# Altium footprint library Resistor.PcbLib: 13 footprints
Each footprint in its own frame and in the unit in brackets; x right, y up, seen from the top. Pads: shape width x height; smd on the part's side, far side on the other; paste and mask are expansions set on the pad; w line width, h text height; cw(c..) or ccw(c..) is an arc to the next point about the centre after c.
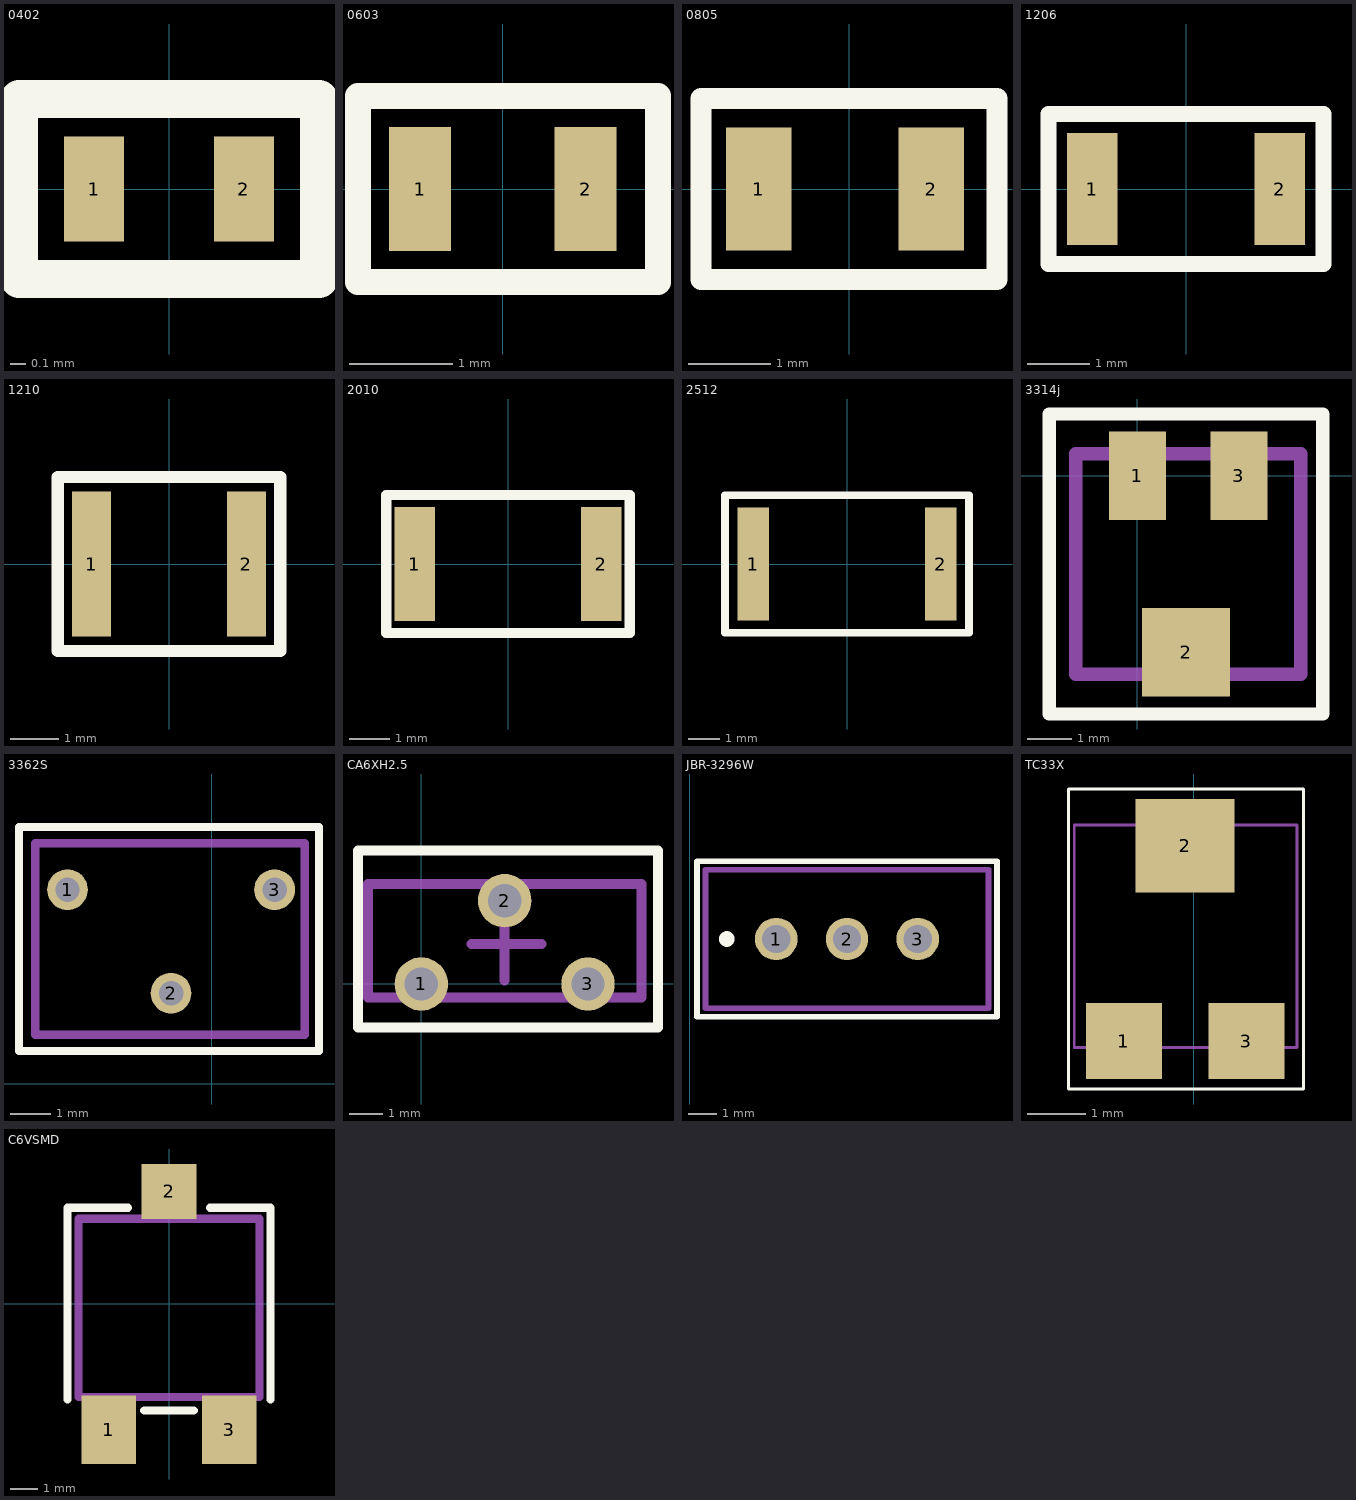
[diagram p0: the footprints below, top view; thin cyan lines are the x and y axes]

## 0402 [mm]
pads (2):
  rect 0.4x0.7 smd mask+0.1: 1(-0.5,0) 2(0.5,0)
Top Overlay:
  lines w0.254: -1,-0.6 -1,0.6 1,0.6 1,-0.6 -1,-0.6
3D body: height 0.25, standoff 0, extent -0.5,-0.3 0.5,0.3

## 0603 [mm]
pads (2):
  rect 0.6x1.2 smd: 1(-0.8,0) 2(0.8,0)
Top Overlay:
  lines w0.254: -1.4,-0.9 -0.575,-0.9 0.675,-0.9 1.5,-0.9 1.5,0.9 0.7,0.9 -0.5,0.9 -1.4,0.9 -1.4,-0.9
3D body: height 0.43, standoff 0, extent -0.8,-0.45 0.8,0.45

## 0805 [mm]
pads (2):
  rect 0.8x1.5 smd: 1(-1.1,0) 2(1,0)
Top Overlay:
  lines w0.254: -1.8,-1.1 1.8,-1.1 1.8,-0.55 1.8,0.55 1.8,1.1 -1.8,1.1 -1.8,-1.1
3D body: height 0.55, standoff 0, extent -1.1,-0.65 1.1,0.65

## 1206 [mm]
pads (2):
  rect 0.8x1.8 smd: 1(-1.5,0) 2(1.5,0)
Top Overlay:
  lines w0.254: -2.2,-1.2 -2.2,1.2 2.2,1.2 2.2,-1.2 -2.2,-1.2
3D body: height 0.6, standoff 0, extent -1.55,-0.8 1.55,0.8

## 1210 [mm]
pads (2):
  rect 0.8x3 smd: 1(-1.6,0) 2(1.6,0)
Top Overlay:
  lines w0.254: -2.3,-1.8 2.3,-1.8 2.3,1.8 -2.3,1.8 -2.3,-1.8
3D body: height 0.35, standoff 0, extent -1.6,-1.35 1.6,1.35

## 2010 [mm]
pads (2):
  rect 1x2.8 smd: 1(-2.3,0) 2(2.3,0)
Top Overlay:
  lines w0.254: -3,-1.7 -3,1.7 3,1.7 3,-1.7 -3,-1.7
3D body: height 0.6, standoff 0, extent -2.5,-1.25 2.5,1.25

## 2512 [mm]
pads (2):
  rect 1x3.6 smd: 1(-3,0) 2(3,0)
Top Overlay:
  lines w0.254: -3.9,-2.2 -3.9,2.2 3.9,2.2 3.9,-2.2 -3.9,-2.2
3D body: height 0.6, standoff 0, extent -3.2,-1.6 3.2,1.6

## 3314j [mm]
pads (3):
  rect 1.3x2 smd: 1(0,0) 3(2.3,0)
  rect 2x2 smd: 2(1.1,-4)
Top Overlay:
  lines w0.3: -2,-5.4 -2,1.4 4.2,1.4 4.2,-5.4 -2,-5.4
Mechanical 15:
  lines w0.3: -1.4,-4.5 3.7,-4.5 3.7,0.5 -1.4,0.5 -1.4,-4.5
3D body: height 2.55, standoff 0, extent -1.4,-4.5 3.7,0.5

## 3362S [mm]
pads (3):
  round 1 hole 0.6: 1(-3.54,4.76) 2(-1,2.22) 3(1.54,4.76)
Top Overlay:
  lines w0.2: -4.73,0.8 2.63,0.8 2.63,6.3 -4.73,6.3 -4.73,0.8
Mechanical 15:
  lines w0.2: -4.33,1.2 -4.33,5.9 2.28,5.9 2.28,1.2 -4.33,1.2
3D body: height 7, standoff 0, extent -4.33,1.2 2.27,5.9
3D body: height 6, standoff 1, extent -3.18,5.9 1.12,6

## CA6XH2.5 [mm]
pads (3):
  round 1.6 hole 1: 1(0,0) 2(2.5,2.5) 3(5,0)
Top Overlay:
  lines w0.3: -1.9,-1.3 -1.9,4 7.1,4 7.1,-1.3 -1.9,-1.3
Mechanical 15:
  lines w0.3: 1.5,1.2 3.6,1.2 ; 2.5,0.1 2.5,2.5 ; -1.6,-0.4 6.6,-0.4 6.6,3 -1.6,3 -1.6,-0.4
3D body: height 7.75, standoff 0, extent -1.65,-0.45 6.65,3.05

## JBR-3296W [mm]
pads (3):
  round 1.5 hole 1: 1(3.06,8.51) 2(5.56,8.51) 3(8.06,8.51)
Top Overlay:
  circle w0.3: c1.31,8.51 r0.127
  lines w0.2: 0.26,5.76 10.86,5.76 10.86,11.26 0.26,11.26 0.26,5.76
Mechanical 15:
  lines w0.2: 0.56,6.06 0.56,10.96 10.56,10.96 10.56,6.06 0.56,6.06
3D body: height 7.75, standoff 0, extent 0.56,6.06 10.56,10.96

## TC33X [mm]
pads (3):
  rect 1.3x1.3 smd: 1(-1.2,1.62) 3(0.9,1.62)
  rect 1.7x1.6 smd: 2(-0.15,4.97)
Top Overlay:
  lines w0.05: -2.15,0.8 -2.15,5.94 1.88,5.94 1.88,0.8 -2.15,0.8
Mechanical 15:
  lines w0.05: -2.05,1.51 1.77,1.51 1.77,5.32 -2.05,5.32 -2.05,1.51
3D body: height 1.7, standoff 0.5, extent -1.999,1.517 1.701,5.217
3D body: height 0.5, standoff 0, extent -1.649,1.416 1.351,5.216

## С6VSMD [mm]
pads (3):
  rect 2x2.5 smd: 1(-2.2,-4.6) 3(2.2,-4.6)
  rect 2x2 smd: 2(0,4.1)
Top Overlay:
  lines w0.3: -3.7,-3.5 -3.7,3.5 -1.5,3.5 ; -0.9,-3.9 0.9,-3.9 ; 1.5,3.5 3.7,3.5 3.7,-3.5
Mechanical 15:
  lines w0.3: -3.3,-3.4 -3.3,3.1 3.3,3.1 3.3,-3.4 -3.3,-3.4